# Altium footprint library Chip1812.PcbLib: 1 footprints
Each footprint in its own frame and in the unit in brackets; x right, y up, seen from the top. Pads: shape width x height; smd on the part's side, far side on the other; paste and mask are expansions set on the pad; w line width, h text height; cw(c..) or ccw(c..) is an arc to the next point about the centre after c.
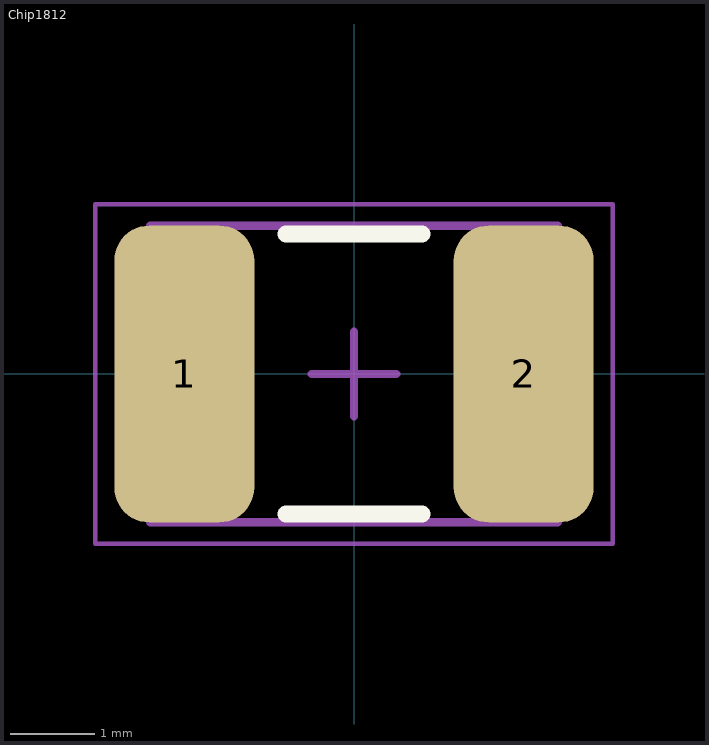
[diagram p0: the footprint, top view; thin cyan lines are the x and y axes]

## Chip1812 [mm] "Chip Resistor, 2-Leads, Body 4.50x3.20mm, IPC Medium Density"
height 2.2
pads (2):
  rrect50% 1.65x3.5 smd: 1(-2,0) 2(2,0)
Top Overlay:
  lines w0.2: -0.8,-1.65 0.8,-1.65 ; -0.8,1.65 0.8,1.65
Mechanical 13:
  lines w0.1: -2.4,-1.75 -2.4,1.75 2.4,1.75 2.4,-1.75 -2.4,-1.75
Mechanical 15:
  lines w0.05: -3.05,-2 -3.05,2 3.05,2 3.05,-2 -3.05,-2
  lines w0.1: -0.5,0 0.5,0 ; 0,-0.5 0,0.5
Mechanical 17:
  lines w0.05: -3.05,-2 3.05,-2 3.05,2 -3.05,2 -3.05,-2
  text ".Designator" at -2.762,-0.623 h1
Mechanical 19:
  lines w0.05: -3.05,-2 3.05,-2 3.05,2 -3.05,2 -3.05,-2
  text ".Comment" at -2.762,-0.623 h1
3D body: height 2.2, standoff 0, extent -1.8,-1.75 1.8,1.75
3D body: height 2.2, standoff 0, extent -2.4,-1.75 -1.8,1.75
3D body: height 2.2, standoff 0, extent 1.8,-1.75 2.4,1.75